# Altium footprint library LCD.PcbLib: 36 footprints (part 2 of 3)
Each footprint in its own frame and in the unit in brackets; x right, y up, seen from the top. Pads: shape width x height; smd on the part's side, far side on the other; paste and mask are expansions set on the pad; w line width, h text height; cw(c..) or ccw(c..) is an arc to the next point about the centre after c.
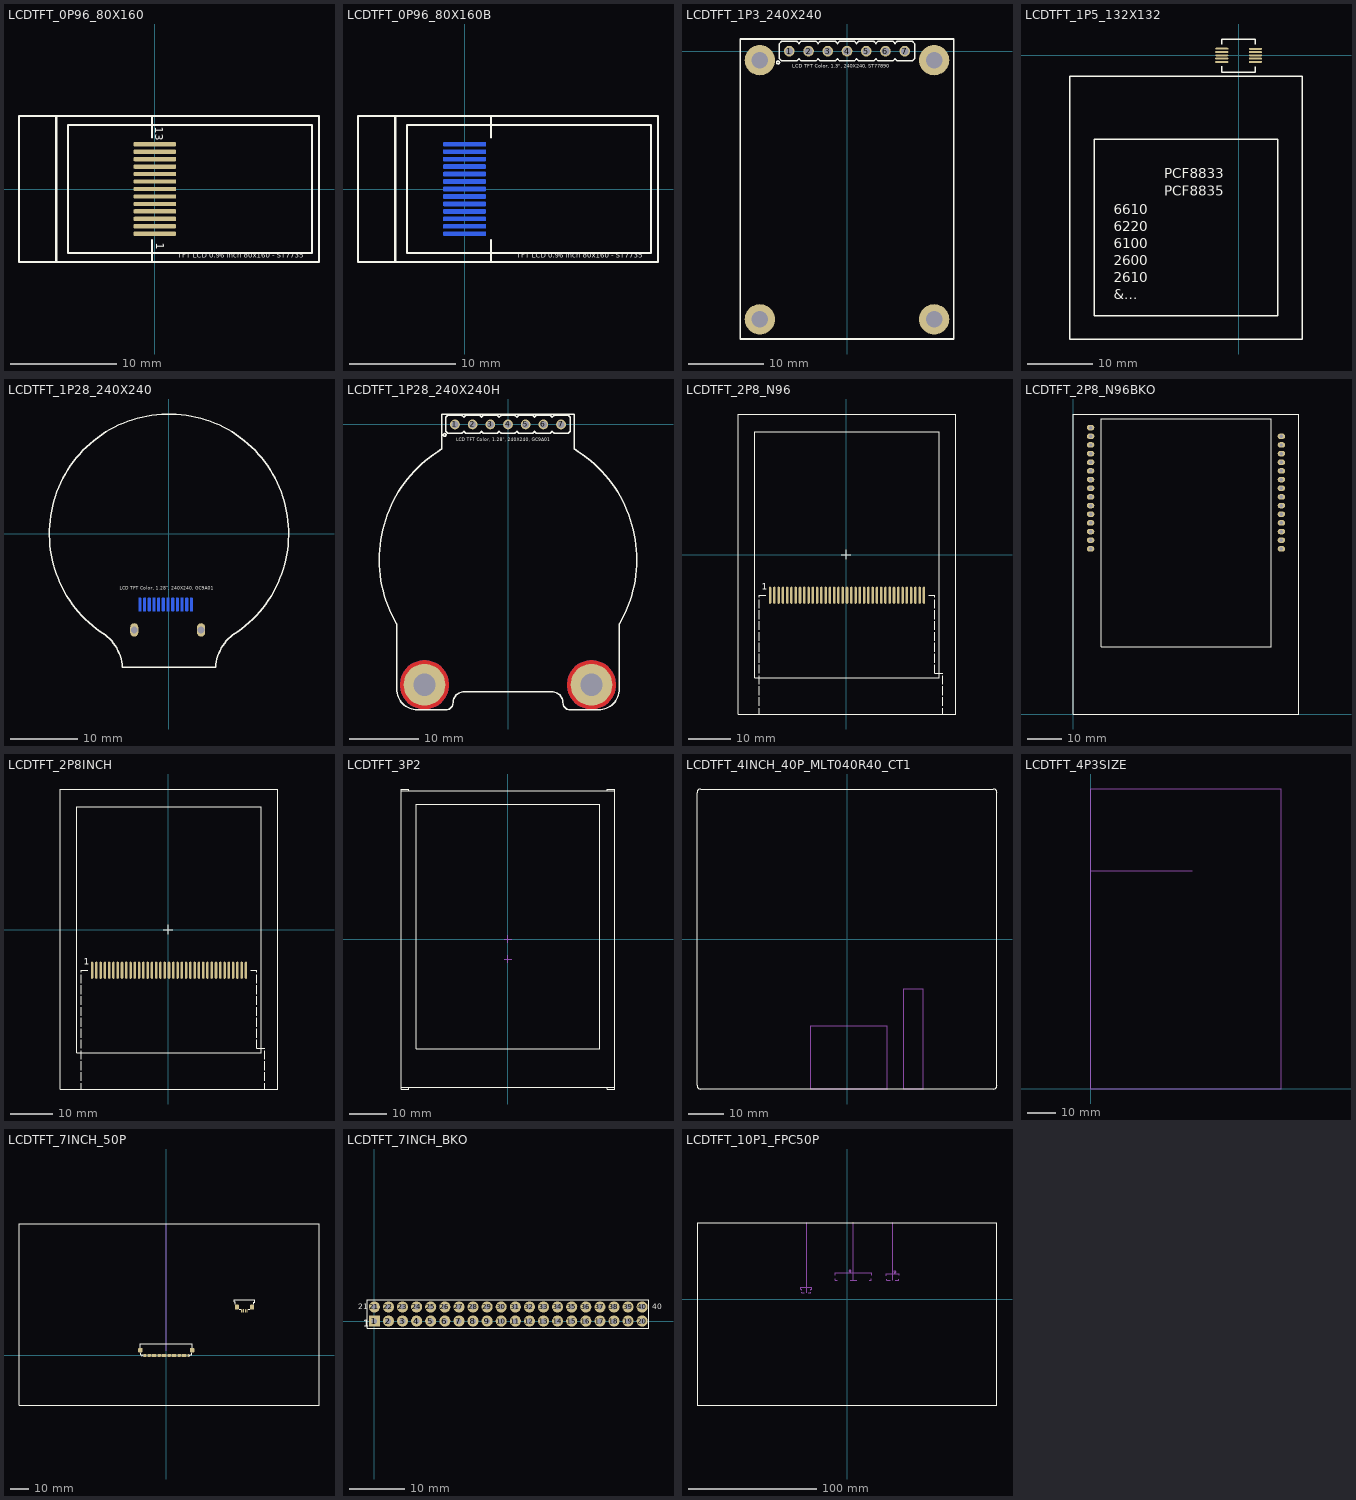
[diagram p1: the footprints below, top view; thin cyan lines are the x and y axes]

## LCDTFT_0P96_80X160 [mm] "TFT LCD 0.96 inch-80x160 - ST7735"
height 1.6
pads (13):
  rrect50% 4x0.4 smd: 1(0,-4.2) 2(0,-3.5) 3(0,-2.8) 4(0,-2.1) 5(0,-1.4) 6(0,-0.7) 7(0,0) 8(0,0.7) 9(0,1.4) 10(0,2.1) 11(0,2.8) 12(0,3.5) 13(0,4.2)
Top Overlay:
  lines w0.2: -9.254,-6.7 -9.254,6.7 ; -0.254,-6.75 -0.254,-4.807 ; -0.254,4.845 -0.254,6.75 ; 14.746,-6 -8.154,-6 -8.154,6 14.746,6 14.746,-6 ; 14.746,-6 14.746,-6 ; 14.746,-6 14.746,-6 ; -12.75,-6.85 15.4,-6.85 15.4,6.85 -12.75,6.85 -12.75,-6.85
  text "TFT LCD 0.96 inch 80x160 - ST7735" at 2.15,-6.65 h0.8
  text "1" at 0.122,-5.044 h0.75
  text "13" at 0.046,5.827 h0.75
3D body "0.96 - IPS LCD - No Glass -No Cable.stp": height 1.47, standoff 0.1, extent -12.637,-6.744 15.329,6.744

## LCDTFT_0P96_80X160B [mm] "TFT LCD 0.96 inch-80x160 - ST7735"
height 1.6
pads (13):
  rrect50% 4x0.4 smd far side: 1(0,-4.2) 2(0,-3.5) 3(0,-2.8) 4(0,-2.1) 5(0,-1.4) 6(0,-0.7) 7(0,0) 8(0,0.7) 9(0,1.4) 10(0,2.1) 11(0,2.8) 12(0,3.5) 13(0,4.2)
Top Overlay:
  lines w0.2: -6.504,-6.7 -6.504,6.7 ; 2.496,-6.75 2.496,-4.807 ; 2.496,4.845 2.496,6.75 ; 17.496,-6 -5.404,-6 -5.404,6 17.496,6 17.496,-6 ; 17.496,-6 17.496,-6 ; 17.496,-6 17.496,-6 ; -10,-6.85 18.15,-6.85 18.15,6.85 -10,6.85 -10,-6.85
  text "TFT LCD 0.96 inch 80x160 - ST7735" at 4.9,-6.65 h0.8
Bottom Overlay:
  text "13" at 0.6,4.7 h0.75
  text "1" at 0.1,-5.45 h0.75
3D body "0.96 - IPS LCD - No Glass -No Cable.stp": height 1.47, standoff 0.1, extent -9.887,-6.744 18.079,6.744

## LCDTFT_1P3_240X240 [mm] "LCD TFT Color, 1.3\", 240X240, ST7789"
height 1.6
pads (11):
  round 1.4 / inner round 1.4 / far side rect 1.4x2.2 hole 1 mask+0.1: 1(-7.62,0)
  round 1.4 / inner round 1.4 / far side oval 1.4x2.2 hole 1 mask+0.1: 2(-5.08,0) 3(-2.54,0) 4(0,0) 5(2.54,0) 6(5.08,0) 7(7.62,0)
  round 4 hole 2.2 mask+0.1: ""(-11.5,-1.2) ""(-11.5,-35.4) ""(11.5,-1.2) ""(11.5,-35.4)
Top Overlay:
  circle w0.2: c-9.1,-1.5 r0.2
  lines w0.2: -6.38,-1 -6.08,-1.3 -4.08,-1.3 -3.78,-1 ; -6.38,1 -6.08,1.3 -4.08,1.3 -3.78,1 ; -6.32,-1 -6.62,-1.3 -8.62,-1.3 -8.92,-1 -8.92,1 -8.62,1.3 -6.62,1.3 -6.32,1 ; -3.84,-1 -3.54,-1.3 -1.54,-1.3 -1.24,-1 ; -3.84,1 -3.54,1.3 -1.54,1.3 -1.24,1 ; -1.3,-1 -1,-1.3 1,-1.3 1.3,-1 ; -1.3,1 -1,1.3 1,1.3 1.3,1 ; 1.24,-1 1.54,-1.3 3.54,-1.3 3.84,-1 ; 1.24,1 1.54,1.3 3.54,1.3 3.84,1 ; 3.78,-1 4.08,-1.3 6.08,-1.3 6.38,-1 ; 3.78,1 4.08,1.3 6.08,1.3 6.38,1 ; 6.32,-1 6.62,-1.3 8.62,-1.3 8.92,-1 8.92,1 8.62,1.3 6.62,1.3 6.32,1 ; -14.1,-38 -14.1,1.6 14.1,1.6 14.1,-38 -14.1,-38
  text "LCD TFT Color, 1.3\", 240X240, ST77890" at -7.2,-2.4 h0.8
3D body "1.3 TFT IPS - Module.stp": height 5.56, standoff 1.5, extent -13.97,-37.885 13.97,1.485
3D body "User Library-Header_Male_7Pin.STEP": height 8.54, standoff -3, extent -8.89,-1.3 8.89,1.19

## LCDTFT_1P5_132X132 [mm] "LCD, NOKIA 6610, 6220, 6100, 2600, 2610"
height 2
pads (10):
  oval 2x0.3 smd mask+0.05: 1(-2.567,1.004) 2(-2.567,0.504) 3(-2.567,0.004) 4(-2.567,-0.496) 5(-2.567,-0.996) 6(2.567,-1.004) 7(2.567,-0.504) 8(2.567,-0.004) 9(2.567,0.496) 10(2.567,0.996)
Top Overlay:
  lines w0.2: -2.572,-2.587 -2.572,-1.697 ; -2.565,-2.591 2.515,-2.591 ; -2.565,2.489 2.515,2.489 ; -2.562,1.693 -2.562,2.483 ; 2.134,-12.827 2.388,-12.827 ; 2.518,1.693 2.518,2.473 ; 2.528,-2.587 2.528,-1.717 ; 2.388,-12.827 -21.996,-12.827 -21.996,-39.751 5.944,-39.751 5.944,-12.827 2.388,-12.827 ; -25.806,-43.307 -25.806,-3.175 9.754,-3.175 9.754,-43.307 -25.806,-43.307
  text "PCF8833" at -11.328,-18.798 h1.5
  text "6220" at -19.081,-26.848 h1.5
  text "6610" at -19.081,-24.257 h1.5
  text "6100" at -19.081,-29.439 h1.5
  text "2600" at -19.081,-32.029 h1.5
  text "2610" at -19.081,-34.62 h1.5
  text "&..." at -19.081,-37.211 h1.5
  text "PCF8835" at -11.328,-21.463 h1.5
3D body: height 2, standoff 0, extent -25.819,-43.323 9.741,-3.191
3D body "DF23C-10DS-0.5V.stp": height 1.46, standoff 0.01, extent -3,-2.55 3,2.55

## LCDTFT_1P28_240X240 [mm] "LCD TFT Color, 1.28\", 240X240, GC9A01"
height 1.6
pads (14):
  rrect50% 0.4x2 smd far side: 1(3.35,-10.6) 2(2.65,-10.6) 3(1.95,-10.6) 4(1.25,-10.6) 5(0.55,-10.6) 6(-0.15,-10.6) 7(-0.85,-10.6) 8(-1.55,-10.6) 9(-2.25,-10.6) 10(-2.95,-10.6) 11(-3.65,-10.6) 12(-4.35,-10.6)
  oval 1.2x2 hole 1: ""(-5.2,-14.4) ""(4.8,-14.4)
Top Overlay:
  lines w0.2: -6.978,-20.004 ccw(c-13.567,-20.379) -10.267,-14.663 cw(c0,0) 10.267,-14.663 ccw(c13.567,-20.379) 6.978,-20.004 ; -6.978,-20 6.978,-20
  text "LCD TFT Color, 1.28\", 240X240, GC9A01" at -7.4,-8.6 h0.8
Bottom Overlay:
  lines w0.2: -6.2,-20.7 6.3,-20.7 6.3,-14.5 ccw(c5.8,-14.5) 5.8,-14 cw(c5.8,-13.4) 5.2,-13.4 5.2,-11.1 ccw(c4.7,-11.1) 4.7,-10.6 -5.7,-10.6 ccw(c-5.7,-11.1) -6.2,-11.1 -6.2,-20.7
  text "1" at 4.194,-9.878 h0.75
  text "12" at -5,-10 h0.75
3D body "GC9A01.STEP": height 2.32, standoff -0.45, extent -17.742,-20.642 17.742,17.75

## LCDTFT_1P28_240X240H [mm] "LCD TFT Color, 1.28\", 240X240, GC9A01, breakout"
height 1.6
pads (9):
  round 1.4 / inner round 1.4 / far side rect 1.4x2.2 hole 1 mask+0.1: 1(-7.62,0)
  round 1.4 / inner round 1.4 / far side oval 1.4x2.2 hole 1 mask+0.1: 2(-5.08,0) 3(-2.54,0) 4(0,0) 5(2.54,0) 6(5.08,0) 7(7.62,0)
  round 6 / inner round 3.5 / far side round 6 hole 3.2 mask+0.1: ""(-12,-37.4) ""(12,-37.4)
Top Layer:
  pour cut-out: 8.5,-37.4 8.5,-37.629 8.56,-38.084 8.679,-38.527 8.854,-38.951 9.084,-39.349 9.363,-39.713 9.687,-40.037 10.051,-40.316 10.449,-40.546 10.873,-40.721 11.316,-40.84 11.771,-40.9 12,-40.9 12.229,-40.9 12.684,-40.84 13.127,-40.721 13.551,-40.546 13.949,-40.316 14.313,-40.037 14.637,-39.713 14.916,-39.349 15.146,-38.951 15.321,-38.527 15.44,-38.084 15.5,-37.629 15.5,-37.4 15.5,-37.171 15.44,-36.716 15.321,-36.273 15.146,-35.849 14.916,-35.451 14.637,-35.087 14.313,-34.763 13.949,-34.484 13.551,-34.254 13.127,-34.079 12.684,-33.96 12.229,-33.9 12,-33.9 11.771,-33.9 11.316,-33.96 10.873,-34.079 10.449,-34.254 10.051,-34.484 9.687,-34.763 9.363,-35.087 9.084,-35.451 8.854,-35.849 8.679,-36.273 8.56,-36.716 8.5,-37.171
  pour cut-out: -15.5,-37.4 -15.5,-37.629 -15.44,-38.084 -15.321,-38.527 -15.146,-38.951 -14.916,-39.349 -14.637,-39.713 -14.313,-40.037 -13.949,-40.316 -13.551,-40.546 -13.127,-40.721 -12.684,-40.84 -12.229,-40.9 -12,-40.9 -11.771,-40.9 -11.316,-40.84 -10.873,-40.721 -10.449,-40.546 -10.051,-40.316 -9.687,-40.037 -9.363,-39.713 -9.084,-39.349 -8.854,-38.951 -8.679,-38.527 -8.56,-38.084 -8.5,-37.629 -8.5,-37.4 -8.5,-37.171 -8.56,-36.716 -8.679,-36.273 -8.854,-35.849 -9.084,-35.451 -9.363,-35.087 -9.687,-34.763 -10.051,-34.484 -10.449,-34.254 -10.873,-34.079 -11.316,-33.96 -11.771,-33.9 -12,-33.9 -12.229,-33.9 -12.684,-33.96 -13.127,-34.079 -13.551,-34.254 -13.949,-34.484 -14.313,-34.763 -14.637,-35.087 -14.916,-35.451 -15.146,-35.849 -15.321,-36.273 -15.44,-36.716 -15.5,-37.171
Bottom Layer:
  pour cut-out: 8.5,-37.4 8.5,-37.629 8.56,-38.084 8.679,-38.527 8.854,-38.951 9.084,-39.349 9.363,-39.713 9.687,-40.037 10.051,-40.316 10.449,-40.546 10.873,-40.721 11.316,-40.84 11.771,-40.9 12,-40.9 12.229,-40.9 12.684,-40.84 13.127,-40.721 13.551,-40.546 13.949,-40.316 14.313,-40.037 14.637,-39.713 14.916,-39.349 15.146,-38.951 15.321,-38.527 15.44,-38.084 15.5,-37.629 15.5,-37.4 15.5,-37.171 15.44,-36.716 15.321,-36.273 15.146,-35.849 14.916,-35.451 14.637,-35.087 14.313,-34.763 13.949,-34.484 13.551,-34.254 13.127,-34.079 12.684,-33.96 12.229,-33.9 12,-33.9 11.771,-33.9 11.316,-33.96 10.873,-34.079 10.449,-34.254 10.051,-34.484 9.687,-34.763 9.363,-35.087 9.084,-35.451 8.854,-35.849 8.679,-36.273 8.56,-36.716 8.5,-37.171
  pour cut-out: -15.5,-37.4 -15.5,-37.629 -15.44,-38.084 -15.321,-38.527 -15.146,-38.951 -14.916,-39.349 -14.637,-39.713 -14.313,-40.037 -13.949,-40.316 -13.551,-40.546 -13.127,-40.721 -12.684,-40.84 -12.229,-40.9 -12,-40.9 -11.771,-40.9 -11.316,-40.84 -10.873,-40.721 -10.449,-40.546 -10.051,-40.316 -9.687,-40.037 -9.363,-39.713 -9.084,-39.349 -8.854,-38.951 -8.679,-38.527 -8.56,-38.084 -8.5,-37.629 -8.5,-37.4 -8.5,-37.171 -8.56,-36.716 -8.679,-36.273 -8.854,-35.849 -9.084,-35.451 -9.363,-35.087 -9.687,-34.763 -10.051,-34.484 -10.449,-34.254 -10.873,-34.079 -11.316,-33.96 -11.771,-33.9 -12,-33.9 -12.229,-33.9 -12.684,-33.96 -13.127,-34.079 -13.551,-34.254 -13.949,-34.484 -14.313,-34.763 -14.637,-35.087 -14.916,-35.451 -15.146,-35.849 -15.321,-36.273 -15.44,-36.716 -15.5,-37.171
Top Overlay:
  circle w0.2: c-9.1,-1.5 r0.2
  lines w0.2: -16.021,-28.65 cw(c0,-19.4) -9.489,-3.519 ; -16,-28.65 -16,-38 ccw(c-13,-38) -13,-41 -8.9,-41 ccw(c-8.9,-40) -7.9,-40 cw(c-6.3,-40) -6.3,-38.4 0,-38.4 6.3,-38.4 cw(c6.3,-40) 7.9,-40 ccw(c8.9,-40) 8.9,-41 13,-41 ccw(c13,-38) 16,-38 16,-28.65 ; -9.5,-3.519 -9.5,1.5 0,1.5 9.5,1.5 9.5,-3.519 ; -6.38,-1 -6.08,-1.3 -4.08,-1.3 -3.78,-1 ; -6.38,1 -6.08,1.3 -4.08,1.3 -3.78,1 ; -6.32,-1 -6.62,-1.3 -8.62,-1.3 -8.92,-1 -8.92,1 -8.62,1.3 -6.62,1.3 -6.32,1 ; -3.84,-1 -3.54,-1.3 -1.54,-1.3 -1.24,-1 ; -3.84,1 -3.54,1.3 -1.54,1.3 -1.24,1 ; -1.3,-1 -1,-1.3 1,-1.3 1.3,-1 ; -1.3,1 -1,1.3 1,1.3 1.3,1 ; 1.24,-1 1.54,-1.3 3.54,-1.3 3.84,-1 ; 1.24,1 1.54,1.3 3.54,1.3 3.84,1 ; 3.78,-1 4.08,-1.3 6.08,-1.3 6.38,-1 ; 3.78,1 4.08,1.3 6.08,1.3 6.38,1 ; 6.32,-1 6.62,-1.3 8.62,-1.3 8.92,-1 8.92,1 8.62,1.3 6.62,1.3 6.32,1 ; 9.489,-3.519 cw(c0,-19.4) 16.021,-28.65
  text "LCD TFT Color, 1.28\", 240X240, GC9A01" at -7.438,-2.597 h0.8
3D body "D1P28.step": height 5.82, standoff -6.1, extent -18.49,-41 18.493,1.5

## LCDTFT_2P8_N96 [mm] "LCD, TFT, 2.8\" N96"
height 3
pads (37):
  oval 0.6x4 smd: 1(-17.78,-9.508) 2(-16.78,-9.508) 3(-15.78,-9.508) 4(-14.78,-9.508) 5(-13.78,-9.508) 6(-12.78,-9.508) 7(-11.78,-9.508) 8(-10.78,-9.508) 9(-9.78,-9.508) 10(-8.78,-9.508) 11(-7.78,-9.508) 12(-6.78,-9.508) 13(-5.78,-9.508) 14(-4.78,-9.508) 15(-3.78,-9.508) 16(-2.78,-9.508) 17(-1.78,-9.508) 18(-0.78,-9.508) 19(0.22,-9.508) 20(1.22,-9.508) 21(2.22,-9.508) 22(3.22,-9.508) 23(4.22,-9.508) 24(5.22,-9.508) 25(6.22,-9.508) 26(7.22,-9.508) 27(8.22,-9.508) 28(9.22,-9.508) 29(10.22,-9.508) 30(11.22,-9.508) 31(12.22,-9.508) 32(13.22,-9.508) 33(14.22,-9.508) 34(15.22,-9.508) 35(16.22,-9.508) 36(17.22,-9.508) 37(18.22,-9.508)
Top Overlay:
  lines w0.254: -20.28,-35.924 -20.28,-37.3 ; -20.28,-35.416 -20.28,-33.384 ; -20.28,-32.876 -20.28,-30.844 ; -20.28,-30.336 -20.28,-28.304 ; -20.28,-27.796 -20.28,-25.764 ; -20.28,-25.256 -20.28,-23.224 ; -20.28,-22.716 -20.28,-20.684 ; -20.28,-20.176 -20.28,-18.144 ; -20.28,-17.636 -20.28,-15.604 ; -20.28,-15.096 -20.28,-13.064 ; -20.28,-12.556 -20.28,-10.524 ; -20.28,-10.016 -20.28,-9.5 -18.796,-9.5 ; -1.143,0 0,0 ; 0,-1.143 0,0 ; 0,1.143 0,0 ; 1.143,0 0,0 ; 19.304,-9.5 20.72,-9.5 20.72,-10.016 ; 20.72,-27.8 22.62,-27.8 ; 20.72,-27.796 20.72,-25.764 ; 20.72,-25.256 20.72,-23.224 ; 20.72,-22.716 20.72,-20.684 ; 20.72,-20.176 20.72,-18.144 ; 20.72,-17.636 20.72,-15.604 ; 20.72,-15.096 20.72,-13.064 ; 20.72,-12.556 20.72,-10.524 ; 22.62,-37.3 22.62,-35.924 ; 22.62,-35.416 22.62,-33.384 ; 22.62,-32.876 22.62,-30.844 ; 22.62,-30.336 22.62,-28.304 ; -20.28,-37.3 -25.28,-37.3 -25.28,32.9 25.72,32.9 25.72,-37.3 -20.28,-37.3 ; -21.38,-28.8 21.82,-28.8 21.82,28.8 -21.38,28.8 -21.38,-28.8
  text "1" at -19.685,-8.238 h1.52

## LCDTFT_2P8_N96BKO [mm]
pads (29):
  oval 2.2x1.6 hole 1: 1(5,84) 2(5,81.46) 3(5,78.92) 4(5,76.38) 5(5,73.84) 6(5,71.3) 7(5,68.76) 8(5,66.22) 9(5,63.68) 10(5,61.14) 11(5,58.6) 12(5,56.06) 13(5,53.52) 14(5,50.98) 15(5,48.44) 16(61,48.44) 17(61,50.98) 18(61,53.52) 19(61,56.06) 20(61,58.6) 21(61,61.14) 22(61,63.68) 23(61,66.22) 24(61,68.76) 25(61,71.3) 26(61,73.84) 27(61,76.38) 28(61,78.92) 29(61,81.46)
Top Overlay:
  lines w0.2: 0,0 0,88 66,88 66,0 0,0 ; 8.128,19.685 8.128,86.614 58.039,86.614 58.039,19.685 8.128,19.685

## LCDTFT_2P8INCH [mm] "LCD, TFT, ELT240320ATP"
pads (37):
  oval 0.6x4 smd: 1(-17.78,-9.508) 2(-16.78,-9.508) 3(-15.78,-9.508) 4(-14.78,-9.508) 5(-13.78,-9.508) 6(-12.78,-9.508) 7(-11.78,-9.508) 8(-10.78,-9.508) 9(-9.78,-9.508) 10(-8.78,-9.508) 11(-7.78,-9.508) 12(-6.78,-9.508) 13(-5.78,-9.508) 14(-4.78,-9.508) 15(-3.78,-9.508) 16(-2.78,-9.508) 17(-1.78,-9.508) 18(-0.78,-9.508) 19(0.22,-9.508) 20(1.22,-9.508) 21(2.22,-9.508) 22(3.22,-9.508) 23(4.22,-9.508) 24(5.22,-9.508) 25(6.22,-9.508) 26(7.22,-9.508) 27(8.22,-9.508) 28(9.22,-9.508) 29(10.22,-9.508) 30(11.22,-9.508) 31(12.22,-9.508) 32(13.22,-9.508) 33(14.22,-9.508) 34(15.22,-9.508) 35(16.22,-9.508) 36(17.22,-9.508) 37(18.22,-9.508)
Top Overlay:
  lines w0.254: -20.28,-35.924 -20.28,-37.3 ; -20.28,-35.416 -20.28,-33.384 ; -20.28,-32.876 -20.28,-30.844 ; -20.28,-30.336 -20.28,-28.304 ; -20.28,-27.796 -20.28,-25.764 ; -20.28,-25.256 -20.28,-23.224 ; -20.28,-22.716 -20.28,-20.684 ; -20.28,-20.176 -20.28,-18.144 ; -20.28,-17.636 -20.28,-15.604 ; -20.28,-15.096 -20.28,-13.064 ; -20.28,-12.556 -20.28,-10.524 ; -20.28,-10.016 -20.28,-9.5 -18.796,-9.5 ; -1.143,0 0,0 ; 0,-1.143 0,0 ; 0,1.143 0,0 ; 1.143,0 0,0 ; 19.304,-9.5 20.72,-9.5 20.72,-10.016 ; 20.72,-27.8 22.62,-27.8 ; 20.72,-27.796 20.72,-25.764 ; 20.72,-25.256 20.72,-23.224 ; 20.72,-22.716 20.72,-20.684 ; 20.72,-20.176 20.72,-18.144 ; 20.72,-17.636 20.72,-15.604 ; 20.72,-15.096 20.72,-13.064 ; 20.72,-12.556 20.72,-10.524 ; 22.62,-37.3 22.62,-35.924 ; 22.62,-35.416 22.62,-33.384 ; 22.62,-32.876 22.62,-30.844 ; 22.62,-30.336 22.62,-28.304 ; -20.28,-37.3 25.72,-37.3 25.72,32.9 -25.28,32.9 -25.28,-37.3 -20.28,-37.3 ; -21.38,-28.8 -21.38,28.8 21.82,28.8 21.82,-28.8 -21.38,-28.8
  text "1" at -19.685,-8.238 h1.52

## LCDTFT_3P2 [mm] "TFT LCD 3.2\" , ER-TFT032-3"
Top Overlay:
  lines w0.2: -26.3,-39.3 -26.3,-39.7 -28.3,-39.7 -28.3,-39.3 ; -26.3,39.3 -26.3,39.7 -28.3,39.7 -28.3,39.3 ; -24.278,-29 24.3,-29 24.3,35.7 ; -24.278,-28.99 -24.278,35.71 24.3,35.71 ; 26.3,-39.3 26.3,-39.7 28.3,-39.7 28.3,-39.3 ; 26.3,39.3 26.3,39.7 28.3,39.7 28.3,39.3 ; -28.3,-39.3 28.3,-39.3 ; -28.3,-39.3 -28.3,39.3 ; -28.3,39.3 28.3,39.3 ; 28.3,-39.3 28.3,39.3
Bottom Overlay:
  circle w0.2: c11.4,-5.2 r0.2
  lines w0.2: -12.25,-9.87 -12.25,-11.945 12.25,-11.945 12.25,-9.87 ; -11.8,-7.2 -11.8,-5.745 -10.1,-5.745 ; 10.1,-5.745 11.8,-5.745 11.8,-7.2
Mechanical 13:
  lines w0.1: -1,-5.3 1,-5.3 ; -1,0 1,0 ; 0,-6.3 0,-4.3 ; 0,-1 0,1

## LCDTFT_4INCH_40P_MLT040R40_CT1 [mm] "LCD, TFT, 4\" 480X480 40+10pins MLT040R40-CT1"
height 3
Top Overlay:
  lines w0.2: -42.1,-41.1 ccw(c-41.1,-41.1) -41.1,-42.1 41.1,-42.1 ccw(c41.1,-41.1) 42.1,-41.1 42.1,41.1 ccw(c41.1,41.1) 41.1,42.1 -41.1,42.1 ccw(c-41.1,41.1) -42.1,41.1 -42.1,-41.1
Bottom Overlay:
  lines w0.2: -11.2,-27.5 -11.2,-29.5 12.2,-29.5 12.2,-27.5 ; -11.1,-24.6 -11.1,-23.6 -9.6,-23.6 ; 10.6,-23.6 12.1,-23.6 12.1,-24.6 ; 14,-17 14,-19.5 23.4,-19.5 23.4,-17 ; 14,-14.75 14,-13.5 16.1,-13.5 ; 21.3,-13.5 23.4,-13.5 23.4,-14.75
Mechanical 13:
  lines w0.2: -10.2,-42.1 11.3,-42.1 11.3,-24.3 -10.2,-24.3 -10.2,-42.1 ; 15.9,-42 21.4,-42 21.4,-14 15.9,-14 15.9,-42
3D body: height 4.7, standoff 1, extent -42,-42 42,42

## LCDTFT_4P3INCH_HEADER [mm] "LCD4.3\""
3D body "LCD TFT 4.3'.STEP": height 6, standoff -8.5, extent -3.45,-7.3 70.55,112.7

## LCDTFT_4P3SIZE [mm] "LCD4.3\" FOR SIZE ONLY"
Mechanical 1:
  lines w0.2: 0,76.7 35.7,76.7 ; 0,0 67.1,0 67.1,105.4 0,105.4 0,0
3D body: height 12.4, standoff 8, extent 0,0 67.1,105.4

## LCDTFT_7INCH_50P [mm] "LCD, TFT, 7\" 800X480"
height 3
pads (58):
  oval 0.3x1.6 smd mask+0.05: 1(12.25,0) 2(11.75,0) 3(11.25,0) 4(10.75,0) 5(10.25,0) 6(9.75,0) 7(9.25,0) 8(8.75,0) 9(8.25,0) 10(7.75,0) 11(7.25,0) 12(6.75,0) 13(6.25,0) 14(5.75,0) 15(5.25,0) 16(4.75,0) 17(4.25,0) 18(3.75,0) 19(3.25,0) 20(2.75,0) 21(2.25,0) 22(1.75,0) 23(1.25,0) 24(0.75,0) 25(0.25,0) 26(-0.25,0) 27(-0.75,0) 28(-1.25,0) 29(-1.75,0) 30(-2.25,0) 31(-2.75,0) 32(-3.25,0) 33(-3.75,0) 34(-4.25,0) 35(-4.75,0) 36(-5.25,0) 37(-5.75,0) 38(-6.25,0) 39(-6.75,0) 40(-7.25,0) 41(-7.75,0) 42(-8.25,0) 43(-8.75,0) 44(-9.25,0) 45(-9.75,0) 46(-10.25,0) 47(-10.75,0) 48(-11.25,0) 49(-11.75,0) 50(-12.25,0)
  rrect50% 2.5x2.5 smd: ""(-14.25,2.9) ""(14.25,2.9)
  rrect50% 2.3x2.8 smd: ""(38.85,26.56) ""(47.15,26.56)
  oval 0.6x1.8 smd: ""(41.5,24.46) ""(42.5,24.46) ""(43.5,24.46) ""(44.5,24.46)
Top Overlay:
  circle w0.2: c12.8,-0.1 r0.2
  lines w0.2: -14.2,4.3 -14.2,6.3 14.2,6.3 14.2,4.3 ; -14.1,1.4 -14.1,0.4 -12.6,0.4 ; 12.6,0.4 14.1,0.4 14.1,1.4 ; 38,28.11 38,29.41 37.4,29.41 37.4,30.71 48.6,30.71 48.6,29.31 48,29.31 48,28.11 ; 40,25.26 41,25.26 ; 45,25.26 46,25.26 ; -81,-27.51 -81,72.49 84,72.49 84,-27.51 -81,-27.51
  text "50" at -13.9,-0.8 h0.8
Bottom Overlay:
  lines w0.2: -26,70.99 -26,72.99 ; -12.5,2.49 12.5,2.49 ; 0,1.49 0,3.49 ; 42,24.49 44,24.49 ; 43,23.49 43,25.49 ; 54,70.99 54,72.99 ; -81,-27.51 84,-27.51 84,72.49 -81,72.49 -81,-27.51
Mechanical 1:
  lines w0.2: 0,2.49 0,72.49
3D body "FH12-50S-0.5SH.stp": height 2.09, standoff -0.01, extent -14.55,-0.3 14.55,6.1
3D body "2005290040.stp": height 1.93, standoff -0.03, extent 38,24.21 48,29.51

## LCDTFT_7INCH_BKO [mm]
pads (40):
  rect 2x2 hole 1: 1(0,0)
  round 2 hole 1: 2(2.54,0) 3(5.08,0) 4(7.62,0) 5(10.16,0) 6(12.7,0) 7(15.24,0) 8(17.78,0) 9(20.32,0) 10(22.86,0) 11(25.4,0) 12(27.94,0) 13(30.48,0) 14(33.02,0) 15(35.56,0) 16(38.1,0) 17(40.64,0) 18(43.18,0) 19(45.72,0) 20(48.26,0) 21(0,2.54) 22(2.54,2.54) 23(5.08,2.54) 24(7.62,2.54) 25(10.16,2.54) 26(12.7,2.54) 27(15.24,2.54) 28(17.78,2.54) 29(20.32,2.54) 30(22.86,2.54) 31(25.4,2.54) 32(27.94,2.54) 33(30.48,2.54) 34(33.02,2.54) 35(35.56,2.54) 36(38.1,2.54) 37(40.64,2.54) 38(43.18,2.54) 39(45.72,2.54) 40(48.26,2.54)
via -27.01,174.99 diameter 3 hole 3
via 75.32,175.01 diameter 3 hole 3
via 75.29,-0.04 diameter 3 hole 3
via -27.07,-0.05 diameter 3 hole 3
Top Overlay:
  lines w0.2: 24.128,-1.27 49.471,-1.27 49.471,3.81 -1.27,3.81 -1.27,-1.27 24.13,-1.27
  text "40" at 50.108,2.151 h1
  text "21" at -2.941,2.151 h1
  text "1" at -2.032,-1.016 h1.27
3D body: height 11.6, standoff 10, extent -30,-3 78.241,178.053
3D body: height 19.1, standoff 10, extent -25.572,5.023 73.718,170.075

## LCDTFT_10P1_FPC50P [mm] "TFT LCD 10.1\" , ER-TFT101-1"
Top Overlay:
  lines w0.2: -117.5,-83 -117.5,60 117.5,60 117.5,-83 -117.5,-83
Mechanical 13:
  lines w0.1: -35.5,5.4 -35.5,5.2 -33.5,5.2 ; -35.5,7 -35.5,7.9 -36.3,7.9 -36.3,9.6 -27.5,9.6 -27.5,7.9 -28.3,7.9 -28.3,7 ; -31.9,5 -31.9,60 ; -30.3,5.2 -28.3,5.2 -28.3,5.4 ; -9.2,18.9 -9.2,20.9 19.2,20.9 19.2,18.9 ; -9.1,16 -9.1,15 -7.6,15 ; 2.5,15 7.5,15 ; 5,15 5,60 ; 17.6,15 19.1,15 19.1,16 ; 30.75,18.6 30.75,20.2 40.95,20.2 40.95,18.7 ; 31.15,15.6 31.15,15 33.85,15 ; 35.85,15 35.85,60 ; 37.85,15 40.55,15 40.55,15.6 ; 1.5,22.3 2,22.3 2,23.3 3,23.3 3,22.3 3.5,22.3 2.5,21.3 1.5,22.3 ; 36.5,21.5 37,21.5 37,22.5 38,22.5 38,21.5 38.5,21.5 37.5,20.5 36.5,21.5
  text "bottom contact, bottom side" at -36.2,4.301 h0.8
  text "1" at 39.801,15.204 h1.2
  text "fpc entry" at 36.2,22.85 h0.8
  text "bottom contact, top side" at -8.849,19.242 h0.8
  text "top or dual contact, bottom side of PCB" at -8.721,20.075 h0.8
  text "1" at 17.932,15.193 h1.2
  text "50" at -8.932,15.207 h1.2
  text "fpc Connector" at -9.1,21.313 h1.2
  text "fpc entry" at 1.2,23.65 h0.8
  text "bottom contact, top side" at 31.107,13.295 h0.8
  text "top/dual contact, bottom side" at 31.235,14.128 h0.8
  text "RTP" at 30.75,20.5 h1.2
  text "CTP" at -36.303,9.903 h1.2
  text "1" at -35.175,5.428 h1.2
  text "ER-TPC101-1" at -37.2,6.309 h0.8